# Altium footprint library 3.3V Regulator.PcbLib: 1 footprints
Each footprint in its own frame and in the unit in brackets; x right, y up, seen from the top. Pads: shape width x height; smd on the part's side, far side on the other; paste and mask are expansions set on the pad; w line width, h text height; cw(c..) or ccw(c..) is an arc to the next point about the centre after c.
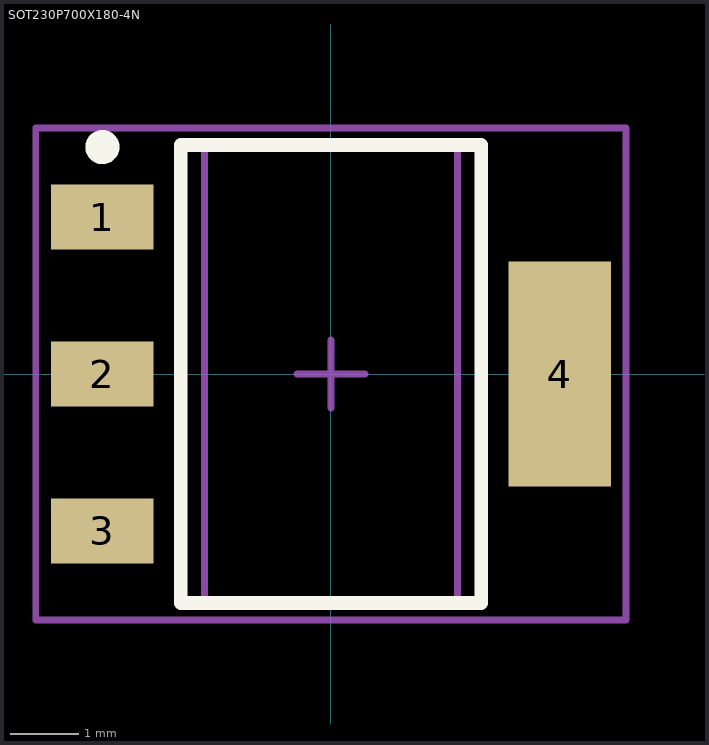
[diagram p0: the footprint, top view; thin cyan lines are the x and y axes]

## SOT230P700X180-4N [mm] "SOT223, 4-Leads, Body 6.7x7.3mm (max), Pitch 2.30mm, IPC Medium Density"
height 1.8
pads (4):
  rect 1.5x0.95 smd: 1(-3.35,2.3) 2(-3.35,0) 3(-3.35,-2.3)
  rect 1.5x3.3 smd: 4(3.35,0)
Top Overlay:
  circle w0.25: c-3.35,3.325 r0.125
  lines w0.2: -2.2,-3.355 2.2,-3.355 2.2,3.355 -2.2,3.355 -2.2,-3.355
Mechanical 13:
  lines w0.1: -1.855,-3.355 1.855,-3.355 1.855,3.355 -1.855,3.355 -1.855,-3.355
Mechanical 15:
  lines w0.1: -0.5,0 0.5,0 ; 0,-0.5 0,0.5 ; -4.325,-3.605 4.325,-3.605 4.325,3.605 -4.325,3.605 -4.325,-3.605
3D body: height 1.8, standoff 0.02, extent -1.855,-3.355 1.855,3.355